# Altium integrated library Q-Resistors.IntLib: 917 symbols (part 2 of 8)
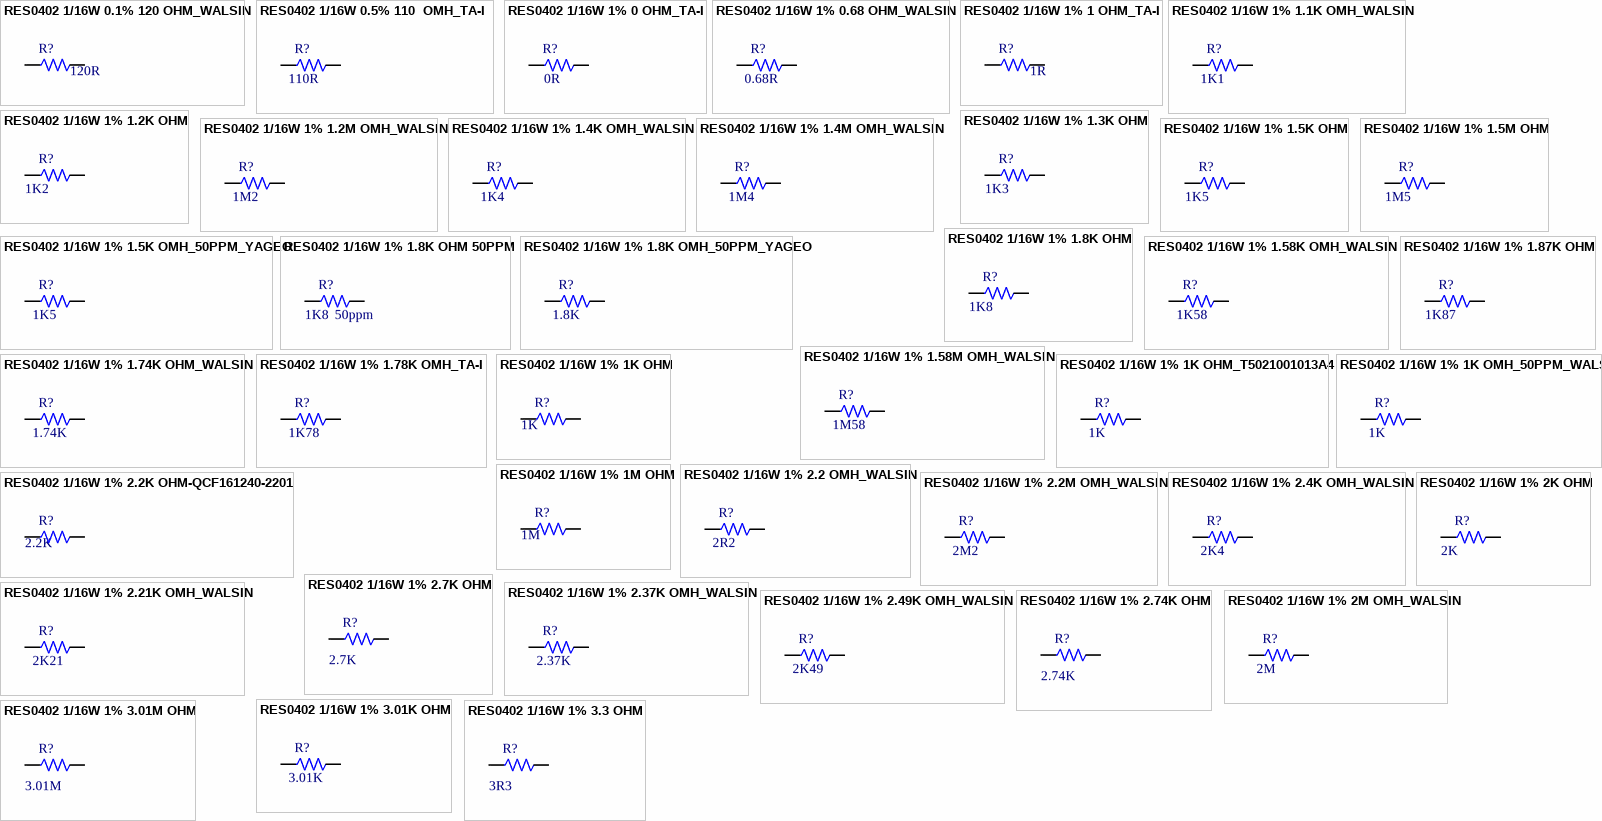
[diagram p23: symbols RES0402 1/16W 0.1% 120 OHM_WALSIN to RES0402 1/16W 1% 3.3 OHM]

## RES0402 1/16W 1% 1.2M OMH_WALSIN
designator R?, comment value 1M2  (hidden comment: T502120401399)
CHIP 1.2M OHM  100PPM +-1% 0402 WALS L; TOL: 1%; MFG: WALSIN (華新); Power: 1/16W; CREATE_NAME: Nathan; DIP&SMD: SMD; SAP: T502120401399; Package: 0402; MFG Part: *; Vendor Code: *; Vendor Name: *; Type: Resistor; CREATE_TIME: 25-May-2016; Customer Specific: N/A
footprint 0402-RW
pins: 1, 2

## RES0402 1/16W 1% 1.3K OHM
designator R?, comment value 1K3  (hidden comment: QCF161240-1301)
RES 1.3K OHM 1/16W 1% 0402; SAP: T502130101399; CREATE_NAME: Nathan; DIP&SMD: SMD; Vendor Code: *; Power: 1/16W; Vendor Name: *; MFG Part: *; MFG: *; TOL: 1%; Type: Resistor; CREATE_TIME: 26-Jan-2015; PACKAGE: 0402; Customer Specific: N/A
footprint 0402-RW
pins: 1, 2

## RES0402 1/16W 1% 1.4K OMH_WALSIN
designator R?, comment value 1K4  (hidden comment: T502140101399)
CHIP 1.4K OHM 100PPM +-1% 0402 WALS L; MFG Part: WR04X1401FTL; TOL: 1%; MFG: WALSIN; Power: 1/16W; CREATE_NAME: Nathan; DIP&SMD: SMD; SAP: T502140101399; Package: 0402; Vendor Code: *; Vendor Name: *; Type: Resistor; CREATE_TIME: 17-Feb-2020; Customer Specific: N/A
footprint 0402-RW
pins: 1, 2

## RES0402 1/16W 1% 1.4M OMH_WALSIN
designator R?, comment value 1M4  (hidden comment: T502140401399)
CHIP 1.4M OHM 100PPM +-1% 0402 WALS L; MFG Part: WR04W1404FTL; TOL: 1%; MFG: WALSIN (華新); Power: 1/16W; CREATE_NAME: Nathan; DIP&SMD: SMD; SAP: T502140401399; Package: 0402; Vendor Code: *; Vendor Name: *; Type: Resistor; CREATE_TIME: 24-Nov-2017; Customer Specific: N/A
footprint 0402-RW
pins: 1, 2

## RES0402 1/16W 1% 1.5K OHM
designator R?, comment value 1K5  (hidden comment: QCF161240-1501)
CHIP RES 1.5K OHM 1/16W 1% 0402; SAP: T502150101399; MFG: WALSIN; DIP&SMD: SMD; Vendor Code: *; Power: 1/16W; Vendor Name: *; MFG Part: *; TOL: 1%; Type: Resistor; PACKAGE: 0402; Customer Specific: N/A
footprint 0402-RW
pins: 1, 2

## RES0402 1/16W 1% 1.5K OMH_50PPM_YAGEO
designator R?, comment value 1K5  (hidden comment: T501150101321)
CHIP 1.5K OHM  50PPM +-1% 0402 YAGE H; TOL: 1%; MFG: YAGEO (國巨); Power: 1/16W; CREATE_NAME: Nathan; DIP&SMD: SMD; SAP: T501150101321; Package: 0402; MFG Part: *; Vendor Code: *; Vendor Name: *; Type: Resistor; CREATE_TIME: 23-May-2016; Customer Specific: N/A
footprint 0402-RW
pins: 1, 2

## RES0402 1/16W 1% 1.5M OHM
designator R?, comment value 1M5  (hidden comment: QCF161241-1504)
CHIP RES 1.5M OHM 1/16W 1% 0402; SAP: T502150401399; MFG: WALSIN; DIP&SMD: SMD; Vendor Code: *; Power: 1/16W; Vendor Name: *; MFG Part: *; TOL: 1%; Type: Resistor; PACKAGE: 0402; Customer Specific: N/A
footprint 0402-RW
pins: 1, 2

## RES0402 1/16W 1% 1.8K OHM
designator R?, comment value 1K8  (hidden comment: QCF161240-1801)
CHIP RES 1.8K 1/16W  1% 0402; SAP: T502180101399; CREATE_NAME: GordonL@Deftronics; DIP&SMD: SMD; Vendor Code: *; Power: 1/16W; Vendor Name: *; MFG Part: *; MFG: *; TOL: 1%; Type: Resistor; CREATE_TIME: 11-Mar-2014; PACKAGE: 0402; Customer Specific: N/A
footprint 0402-RW
pins: 1, 2

## RES0402 1/16W 1% 1.8K OHM 50PPM
designator R?, comment value 1K8  CREATE_NAME: 50ppm  (hidden comment: QCF161241-1801)
CHIP RES 1.8K OHM 1/16W 1% 0402 50ppm; SAP: T501180101329; MFG: WALSIN; DIP&SMD: SMD; Vendor Code: *; Power: 1/16W; Vendor Name: *; MFG Part: *; TOL: 1%; Type: Resistor; PACKAGE: 0402; Customer Specific: N/A
footprint 0402-RW
pins: 1, 2

## RES0402 1/16W 1% 1.8K OMH_50PPM_YAGEO
designator R?, comment value 1.8K  (hidden comment: T501180101321)
CHIP 1.8K OHM  50PPM +-1% 0402 YAGE H; TOL: 1%; MFG: YAGEO (國巨); Power: 1/16W; CREATE_NAME: Nathan; DIP&SMD: SMD; SAP: T501180101321; Package: 0402; MFG Part: *; Vendor Code: *; Vendor Name: *; Type: Resistor; CREATE_TIME: 23-May-2016; Customer Specific: N/A
footprint 0402-RW
pins: 1, 2

## RES0402 1/16W 1% 1.58K OMH_WALSIN
designator R?, comment value 1K58  (hidden comment: T502158101399)
CHIP 1.58K OHM 100PPM +-1% 0402 WALS L; TOL: 1%; MFG: WALSIN (華新); Power: 1/16W; CREATE_NAME: Nathan; DIP&SMD: SMD; SAP: T502158101399; Package: 0402; MFG Part: *; Vendor Code: *; Vendor Name: *; Type: Resistor; CREATE_TIME: 25-May-2016; Customer Specific: N/A
footprint 0402-RW
pins: 1, 2

## RES0402 1/16W 1% 1.58M OMH_WALSIN
designator R?, comment value 1M58  (hidden comment: T502158401399)
CHIP 1.58M OHM 100PPM +-1% 0402 WALS L; MFG Part: WR04W1584FTL; TOL: 1%; MFG: WALSIN (華新); Power: 1/16W; CREATE_NAME: Nathan; DIP&SMD: SMD; SAP: T502158401399; Package: 0402; Vendor Code: *; Vendor Name: *; Type: Resistor; CREATE_TIME: 24-Nov-2017; Customer Specific: N/A
footprint 0402-RW
pins: 1, 2

## RES0402 1/16W 1% 1.74K OHM_WALSIN
designator R?  value 1.74K  (hidden comment: *)
CHIP 1.74K OHM 100PPM +-1% 0402 WALS L; MFG Part: WR04X1741FTL; TOL: 1%; MFG: WALSIN; Power: 1/16W; CREATE_NAME: Nathan; DIP&SMD: SMD; SAP: *; Package: 0402; Vendor Code: *; Vendor Name: *; Type: Resistor; CREATE_TIME: 09-Oct-2020; Customer Specific: N/A
footprint 0402-RW
pins: 1, 2

## RES0402 1/16W 1% 1.78K OMH_TA-I
designator R?, comment value 1K78  (hidden comment: T502178101394)
CHIP 1.78K OHM 100PPM +-1% 0402 TA-I L; TOL: 1%; MFG: TA-I (大毅); Power: 1/16W; CREATE_NAME: Nathan; DIP&SMD: SMD; SAP: T502178101394; Package: 0402; MFG Part: *; Vendor Code: *; Vendor Name: *; Type: Resistor; CREATE_TIME: 25-May-2016; Customer Specific: N/A
footprint 0402-RW
pins: 1, 2

## RES0402 1/16W 1% 1.87K OHM
designator R?, comment value 1K87  (hidden comment: QCF161240-1871)
CHIP RES. 1.87K OHM 1/16W 1% 0402; SAP: T502187101399; CREATE_NAME: GordonL@Deftronics; DIP&SMD: SMD; Vendor Code: *; Power: 1/16W; Vendor Name: *; MFG Part: *; MFG: *; TOL: 1%; Type: Resistor; CREATE_TIME: 05-Jan-2013; PACKAGE: 0402; Customer Specific: N/A
footprint 0402-RW
pins: 1, 2

## RES0402 1/16W 1% 1K OHM
designator R?, comment value 1K  (hidden comment: QCF161240-1001)
CHIP RES 1K OHM 1/16W 1% 0402; SAP: T502100101399; MFG: WALSIN; DIP&SMD: SMD; Vendor Code: *; Power: 1/16W; Vendor Name: *; MFG Part: *; TOL: 1%; Type: Resistor; PACKAGE: 0402; Customer Specific: N/A
footprint 0402-RW
pins: 1, 2

## RES0402 1/16W 1% 1K OHM_T5021001013A4
designator R?, comment value 1K  (hidden comment: T5021001013A4)
CHIP 1K OHM 200PPM +-1% 0402 TA-I L; MFG Part: RM04FTN1001; TOL: 1%; Power: 1/16W; CREATE_NAME: Tom; DIP&SMD: SMD; SAP: T5021001013A4; Package: 0402; MFG: TA-I; Vendor Code: *; Vendor Name: *; Type: Resistor; CREATE_TIME: 12-Apr-2019; Customer Specific: N/A
footprint 0402-RW
pins: 1, 2

## RES0402 1/16W 1% 1K OMH_50PPM_WALSIN
designator R?, comment value 1K  (hidden comment: T501100101329)
CHIP 1K OHM    50PPM +-1% 0402 WALS L; TOL: 1%; MFG: WALSIN (華新); Power: 1/16W; CREATE_NAME: Nathan; DIP&SMD: SMD; SAP: T501100101329; Package: 0402; MFG Part: *; Vendor Code: *; Vendor Name: *; Type: Resistor; CREATE_TIME: 23-May-2016; Customer Specific: N/A
footprint 0402-RW
pins: 1, 2

## RES0402 1/16W 1% 1M OHM
designator R?, comment value 1M  (hidden comment: QCF161240-1004)
CHIP RES 1M OHM 1/16W 1% 0402; SAP: T502100401399; MFG: WALSIN; DIP&SMD: SMD; Vendor Code: *; Power: 1/16W; Vendor Name: *; MFG Part: *; TOL: 1%; Type: Resistor; PACKAGE: 0402; Customer Specific: N/A
footprint 0402-RW
pins: 1, 2

## RES0402 1/16W 1% 2.2 OMH_WALSIN
designator R?, comment value 2R2  (hidden comment: T502220B01399)
CHIP 2.2 OHM 100PPM +-1% 0402 WALS L; TOL: 1%; MFG: WALSIN (華新); Power: 1/16W; CREATE_NAME: Nathan; DIP&SMD: SMD; SAP: T502220B01399; Package: 0402; MFG Part: *; Vendor Code: *; Vendor Name: *; Type: Resistor; CREATE_TIME: 25-May-2016; Customer Specific: N/A
footprint 0402-RW
pins: 1, 2

## RES0402 1/16W 1% 2.2K OHM-QCF161240-2201
designator R?, comment value 2.2K  (hidden comment: QCF161240-2201)
CHIP RES 2.2K OHM 1/16W 1% 0402; SAP: T502220101399; CREATE_NAME: Evan@Deftronics; DIP&SMD: SMD; Vendor Code: *; Power: 1/16W; Vendor Name: *; MFG Part: *; MFG: *; TOL: 1%; Type: Resistor; CREATE_TIME: 23-Apr-2014; PACKAGE: 0402; Customer Specific: N/A
footprint 0402-RW
pins: 1, 2

## RES0402 1/16W 1% 2.2M OMH_WALSIN
designator R?, comment value 2M2  (hidden comment: T502220401399)
CHIP 2.2M OHM  100PPM +-1% 0402 WALS L; TOL: 1%; MFG: WALSIN (華新); Power: 1/16W; CREATE_NAME: Nathan; DIP&SMD: SMD; SAP: T502220401399; Package: 0402; MFG Part: *; Vendor Code: *; Vendor Name: *; Type: Resistor; CREATE_TIME: 25-May-2016; Customer Specific: N/A
footprint 0402-RW
pins: 1, 2

## RES0402 1/16W 1% 2.4K OMH_WALSIN
designator R?, comment value 2K4  (hidden comment: T502240101399)
CHIP 2.4K OHM 100PPM +-1% 0402 WALS L; TOL: 1%; MFG: WALSIN (華新); Power: 1/16W; CREATE_NAME: Nathan; DIP&SMD: SMD; SAP: T502240101399; Package: 0402; MFG Part: *; Vendor Code: *; Vendor Name: *; Type: Resistor; CREATE_TIME: 25-May-2016; Customer Specific: N/A
footprint 0402-RW
pins: 1, 2

## RES0402 1/16W 1% 2.7K OHM
designator R?, comment value 2.7K  (hidden comment: QCF161240-2701)
CHIP RES 2.7K OHM 1/16W 1% 0402; SAP: T502270101399; MFG: WALSIN; DIP&SMD: SMD; Vendor Code: *; Power: 1/16W; Vendor Name: *; MFG Part: *; TOL: 1%; Type: Resistor; PACKAGE: 0402; Customer Specific: N/A
footprint 0402-RW
pins: 1, 2

## RES0402 1/16W 1% 2.21K OMH_WALSIN
designator R?, comment value 2K21  (hidden comment: T502221101399)
CHIP 2.21K OHM 100PPM +-1% 0402 WALS L; TOL: 1%; MFG: WALSIN (華新); Power: 1/16W; CREATE_NAME: Nathan; DIP&SMD: SMD; SAP: T502221101399; Package: 0402; MFG Part: *; Vendor Code: *; Vendor Name: *; Type: Resistor; CREATE_TIME: 25-May-2016; Customer Specific: N/A
footprint 0402-RW
pins: 1, 2

## RES0402 1/16W 1% 2.37K OMH_WALSIN
designator R?, comment value 2.37K  (hidden comment: T502237101399)
CHIP 2.37K OHM 100PPM +-1% 0402 WALS L; TOL: 1%; MFG: WALSIN; Power: 1/16W; CREATE_NAME: Tom; DIP&SMD: SMD; SAP: T502237101399; Package: 0402; MFG Part: *; Vendor Code: *; Vendor Name: *; Type: Resistor; CREATE_TIME: 02-Aug-2019; Customer Specific: N/A
footprint 0402-RW
pins: 1, 2

## RES0402 1/16W 1% 2.49K OMH_WALSIN
designator R?, comment value 2K49  (hidden comment: T502249101399)
CHIP 2.49K OHM 100PPM +-1% 0402 WALS L; TOL: 1%; MFG: WALSIN (華新); Power: 1/16W; CREATE_NAME: Nathan; DIP&SMD: SMD; SAP: T502249101399; Package: 0402; MFG Part: *; Vendor Code: *; Vendor Name: *; Type: Resistor; CREATE_TIME: 25-May-2016; Customer Specific: N/A
footprint 0402-RW
pins: 1, 2

## RES0402 1/16W 1% 2.74K OHM
designator R?, comment value 2.74K  (hidden comment: QCF161240-2741)
CHIP RES  2.74K OHM 1/16W 1% 0402; SAP: T502274101399; CREATE_NAME: GordonL@Deftronics; DIP&SMD: SMD; Vendor Code: *; Power: 1/16W; Vendor Name: *; MFG Part: *; MFG: *; TOL: 1%; Type: Resistor; CREATE_TIME: 05-Jan-2013; PACKAGE: 0402; Customer Specific: N/A
footprint 0402-RW
pins: 1, 2

## RES0402 1/16W 1% 2K OHM
designator R?, comment value 2K  (hidden comment: QCF161242-2001)
CHIP RES  2K OHM 1/16W 1% 0402; SAP: T502200101399; CREATE_NAME: GordonL@Deftronics; DIP&SMD: SMD; Vendor Code: *; Power: 1/16W; Vendor Name: *; MFG Part: *; MFG: *; TOL: 1%; Type: Resistor; CREATE_TIME: 05-Jan-2013; PACKAGE: 0402; Customer Specific: N/A
footprint 0402-RW
pins: 1, 2

## RES0402 1/16W 1% 2M OMH_WALSIN
designator R?, comment value 2M  (hidden comment: T502200401399)
CHIP 2M OHM    100PPM +-1% 0402 WALS L; TOL: 1%; MFG: WALSIN (華新); Power: 1/16W; CREATE_NAME: Nathan; DIP&SMD: SMD; SAP: T502200401399; Package: 0402; MFG Part: *; Vendor Code: *; Vendor Name: *; Type: Resistor; CREATE_TIME: 25-May-2016; Customer Specific: N/A
footprint 0402-RW
pins: 1, 2

## RES0402 1/16W 1% 3.01K OHM
designator R?, comment value 3.01K  (hidden comment: T502301101391)
CHIP 3.01K OHM 100PPM +-1% 0402 YAGE L; MFG Part: RC0402FR-073K01L; Power: 1/16W; MFG: YAGEO; TOL: 1%; CREATE_NAME: Nathan; DIP&SMD: SMD; Vendor Code: *; SAP: T502301101391; Vendor Name: *; Type: Resistor; CREATE_TIME: 12-Feb-2020; PACKAGE: 0402; Customer Specific: N/A
footprint 0402-RW
pins: 1, 2

## RES0402 1/16W 1% 3.01M OHM
designator R?, comment value 3.01M  (hidden comment: QCF161240-3014)
CHIP RES 3.01M OHM  1% 1/16W 0402; SAP: T502301401399; CREATE_NAME: GordonL@Deftronics; DIP&SMD: SMD; Vendor Code: *; Power: 1/16W; Vendor Name: *; MFG Part: *; MFG: *; TOL: 1%; Type: Resistor; CREATE_TIME: 21-Feb-2014; PACKAGE: 0402; Customer Specific: N/A
footprint 0402-RW
pins: 1, 2

## RES0402 1/16W 1% 3.3 OHM
designator R?, comment value 3R3  (hidden comment: QCF161240-3308)
CHIP RES  3.3 OHM 1/16W 1% 0402; SAP: T502330B01399; CREATE_NAME: GordonL@Deftronics; DIP&SMD: SMD; Vendor Code: *; Power: 1/16W; Vendor Name: *; MFG Part: *; MFG: *; TOL: 1%; Type: Resistor; CREATE_TIME: 05-Jan-2013; PACKAGE: 0402; Customer Specific: N/A
footprint 0402-RW
pins: 1, 2

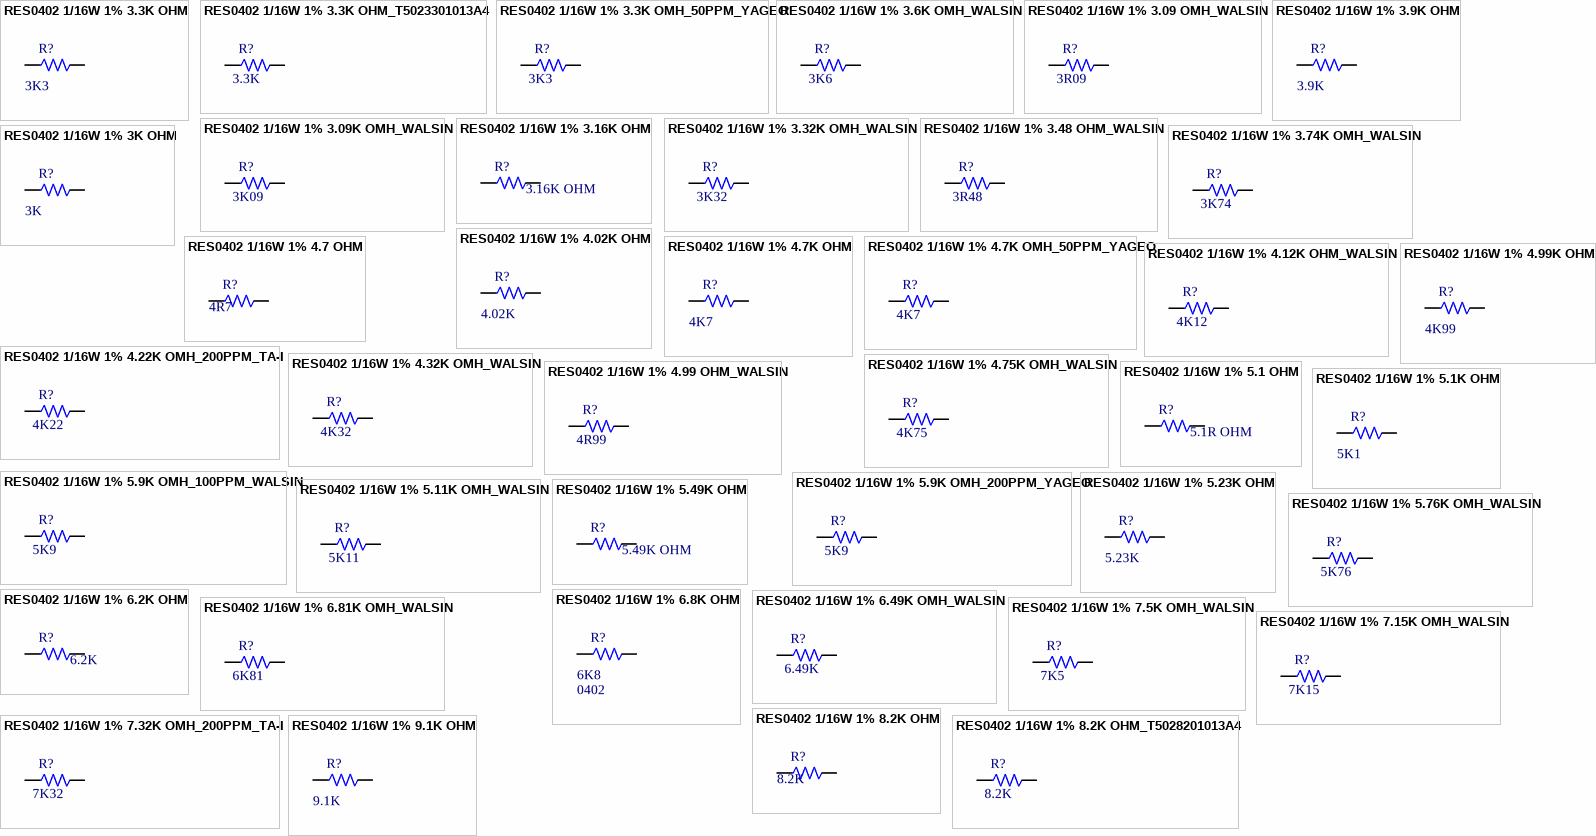
[diagram p4: symbols RES0402 1/16W 1% 3.3K OHM to RES0402 1/16W 1% 9.1K OHM]

## RES0402 1/16W 1% 3.3K OHM
designator R?, comment value 3K3  (hidden comment: QCF161241-3301)
CHIP RES 3.3K OHM 1/16W 1% 0402; SAP: T502330101399; MFG: WALSIN; DIP&SMD: SMD; Vendor Code: *; Power: 1/16W; Vendor Name: *; MFG Part: *; TOL: 1%; Type: Resistor; PACKAGE: 0402; Customer Specific: N/A
footprint 0402-RW
pins: 1, 2

## RES0402 1/16W 1% 3.3K OHM_T5023301013A4
designator R?, comment value 3.3K  (hidden comment: T5023301013A4)
CHIP 3.3K OHM 200PPM +-1% 0402 TA-I L; MFG Part: RM04FTN3301; TOL: 1%; Power: 1/16W; CREATE_NAME: Tom; DIP&SMD: SMD; SAP: T5023301013A4; Package: 0402; MFG: TA-I; Vendor Code: *; Vendor Name: *; Type: Resistor; CREATE_TIME: 12-Apr-2019; Customer Specific: N/A
footprint 0402-RW
pins: 1, 2

## RES0402 1/16W 1% 3.3K OMH_50PPM_YAGEO
designator R?, comment value 3K3  (hidden comment: T501330101321)
CHIP 3.3K OHM  50PPM +-1% 0402 YAGE H; TOL: 1%; MFG: YAGEO (國巨); Power: 1/16W; CREATE_NAME: Nathan; DIP&SMD: SMD; SAP: T501330101321; Package: 0402; MFG Part: *; Vendor Code: *; Vendor Name: *; Type: Resistor; CREATE_TIME: 23-May-2016; Customer Specific: N/A
footprint 0402-RW
pins: 1, 2

## RES0402 1/16W 1% 3.6K OMH_WALSIN
designator R?, comment value 3K6  (hidden comment: T502360101399)
CHIP 3.6K OHM  100PPM +-1% 0402 WALS G; TOL: 1%; MFG: WALSIN (華新); Power: 1/16W; CREATE_NAME: Nathan; DIP&SMD: SMD; SAP: T502360101399; Package: 0402; MFG Part: *; Vendor Code: *; Vendor Name: *; Type: Resistor; CREATE_TIME: 25-May-2016; Customer Specific: N/A
footprint 0402-RW
pins: 1, 2

## RES0402 1/16W 1% 3.09 OMH_WALSIN
designator R?, comment value 3R09  (hidden comment: T502309B01399)
CHIP 3.09 OHM 100PPM +-1% 0402 WALS L; MFG Part: WR04W3R09FTL; TOL: 1%; MFG: WALSIN; Power: 1/16W; CREATE_NAME: Nathan; DIP&SMD: SMD; SAP: T502309B01399; Package: 0402; Vendor Code: *; Vendor Name: *; Type: Resistor; CREATE_TIME: 17-Feb-2020; Customer Specific: N/A
footprint 0402-RW
pins: 1, 2

## RES0402 1/16W 1% 3.9K OHM
designator R?, comment value 3.9K  (hidden comment: QCF161241-3901)
CHIP RES 3.9K OHM 1/16W 1% 0402; SAP: T502390101399; MFG: WALSIN; DIP&SMD: SMD; Vendor Code: *; Power: 1/16W; Vendor Name: *; MFG Part: *; TOL: 1%; Type: Resistor; PACKAGE: 0402; Customer Specific: N/A
footprint 0402-RW
pins: 1, 2

## RES0402 1/16W 1% 3.09K OMH_WALSIN
designator R?, comment value 3K09  (hidden comment: T502309101399)
CHIP 3.09K OHM 100PPM +-1% 0402 WALS L; TOL: 1%; MFG: WALSIN (華新); Power: 1/16W; CREATE_NAME: Nathan; DIP&SMD: SMD; SAP: T502309101399; Package: 0402; MFG Part: *; Vendor Code: *; Vendor Name: *; Type: Resistor; CREATE_TIME: 25-May-2016; Customer Specific: N/A
footprint 0402-RW
pins: 1, 2

## RES0402 1/16W 1% 3.16K OHM
designator R?, comment value 3.16K OHM  (hidden comment: QCF161240-3161)
CHIP RES 3.16K OHM 1% 1/16W 0402; SAP: T502316101399; CREATE_NAME: TOM@Deftronics; DIP&SMD: SMD; Package: 0402; TOL: 1%; MFG Part: *; MFG: *; Vendor Code: *; Vendor Name: *; Type: Resistor; Power: 1/16W; CREATE_TIME: 15-May-2014; Customer Specific: N/A
footprint 0402-RW
pins: 1, 2

## RES0402 1/16W 1% 3.32K OMH_WALSIN
designator R?, comment value 3K32  (hidden comment: T502332101399)
CHIP 3.32K OHM 100PPM +-1% 0402 WALS L; TOL: 1%; MFG: WALSIN (華新); Power: 1/16W; CREATE_NAME: Nathan; DIP&SMD: SMD; SAP: T502332101399; Package: 0402; MFG Part: *; Vendor Code: *; Vendor Name: *; Type: Resistor; CREATE_TIME: 25-May-2016; Customer Specific: N/A
footprint 0402-RW
pins: 1, 2

## RES0402 1/16W 1% 3.48 OHM_WALSIN
designator R?, comment value 3R48  (hidden comment: T502348B01339)
CHIP 3.48 OHM 1% SER +-1% 0402 WALS L; MFG Part: WR04W3R48FTL; MFG: WALSIN (華新); Power: 1/16W; CREATE_NAME: Nathan; DIP&SMD: SMD; SAP: T502348B01339; Package: 0402; TOL: 1%; Vendor Code: *; Vendor Name: *; Type: Resistor; CREATE_TIME: 07-Oct-2019; Customer Specific: N/A
footprint 0402-RW
pins: 1, 2

## RES0402 1/16W 1% 3.74K OMH_WALSIN
designator R?, comment value 3K74  (hidden comment: T502374101399)
CHIP 3.74K OHM 100PPM +-1% 0402 WALS L; MFG Part: WR04X3741FTL; TOL: 1%; MFG: WALSIN; Power: 1/16W; CREATE_NAME: Nathan; DIP&SMD: SMD; SAP: T502374101399; Package: 0402; Vendor Code: *; Vendor Name: *; Type: Resistor; CREATE_TIME: 16-Oct-2017; Customer Specific: N/A
footprint 0402-RW
pins: 1, 2

## RES0402 1/16W 1% 3K OHM
designator R?, comment value 3K  (hidden comment: QCF161240-3001)
CHIP RES 3K OHM 1% 1/16W 0402; SAP: T502300101399; CREATE_NAME: Nathan; DIP&SMD: SMD; Vendor Code: *; Power: 1/16W; Vendor Name: *; MFG Part: *; MFG: *; TOL: 1%; Type: Resistor; CREATE_TIME: 22-Dec-2014; PACKAGE: 0402; Customer Specific: N/A
footprint 0402-RW
pins: 1, 2

## RES0402 1/16W 1% 4.02K OHM
designator R?, comment value 4.02K  (hidden comment: QCF161240-4021)
CHIP RES 4.02K OHM 1% 1/16W 0402 ??; SAP: T502402101399; CREATE_NAME: GordonL@Deftronics; DIP&SMD: SMD; Vendor Code: *; Power: 1/16W; Vendor Name: *; MFG Part: *; MFG: *; TOL: 1%; Type: Resistor; CREATE_TIME: 11-Mar-2014; PACKAGE: 0402; Customer Specific: N/A
footprint 0402-RW
pins: 1, 2

## RES0402 1/16W 1% 4.7 OHM
designator R?, comment value 4R7  (hidden comment: QCF161240-4708)
CHIP RES 4.7 OHM 1% 1/16W  0402; SAP: T502470B01399; MFG: WALSIN; CREATE_NAME: Nathan; DIP&SMD: SMD; Vendor Code: *; Power: 1/16W; Vendor Name: *; MFG Part: *; TOL: 1%; Type: Resistor; CREATE_TIME: 15-Apr-2015; PACKAGE: 0402; Customer Specific: N/A
footprint 0402-RW
pins: 1, 2

## RES0402 1/16W 1% 4.7K OHM
designator R?, comment value 4K7  (hidden comment: QCF161241-4701)
CHIP 4.7K OHM 100PPM +-1% 0402 WALS L; SAP: T502470101399; Power: 1/16W; MFG: WALSIN; TOL: 1%; DIP&SMD: SMD; Vendor Code: *; Vendor Name: *; MFG Part: *; Type: Resistor; PACKAGE: 0402; Customer Specific: N/A
footprint 0402-RW
pins: 1, 2

## RES0402 1/16W 1% 4.7K OMH_50PPM_YAGEO
designator R?, comment value 4K7  (hidden comment: T501470101321)
CHIP 4.7K OHM  50PPM +-1% 0402 YAGE H; TOL: 1%; MFG: YAGEO (國巨); Power: 1/16W; CREATE_NAME: Nathan; DIP&SMD: SMD; SAP: T501470101321; Package: 0402; MFG Part: *; Vendor Code: *; Vendor Name: *; Type: Resistor; CREATE_TIME: 23-May-2016; Customer Specific: N/A
footprint 0402-RW
pins: 1, 2

## RES0402 1/16W 1% 4.12K OHM_WALSIN
designator R?, comment value 4K12  (hidden comment: T502412101399)
CHIP 4.12K OHM 100PPM +-1% 0402 WALS L; MFG Part: WR04X4121FTL; TOL: 1%; MFG: WALSIN (華新); Power: 1/16W; CREATE_NAME: Nathan; DIP&SMD: SMD; SAP: T502412101399; Package: 0402; Vendor Code: *; Vendor Name: *; Type: Resistor; CREATE_TIME: 25-Oct-2019; Customer Specific: N/A
footprint 0402-RW
pins: 1, 2

## RES0402 1/16W 1% 4.22K OMH_200PPM_TA-I
designator R?, comment value 4K22  (hidden comment: T5024221013A4)
CHIP 4.22K OHM 200PPM +-1% 0402 TA-I L; TOL: 1%; MFG: TA-I (大毅); Power: 1/16W; CREATE_NAME: Nathan; DIP&SMD: SMD; SAP: T5024221013A4; Package: 0402; MFG Part: *; Vendor Code: *; Vendor Name: *; Type: Resistor; CREATE_TIME: 03-July-2016; Customer Specific: N/A
footprint 0402-RW
pins: 1, 2

## RES0402 1/16W 1% 4.32K OMH_WALSIN
designator R?, comment value 4K32  (hidden comment: T502432101399)
CHIP 4.32K OHM 100PPM +-1% 0402 WALS L; TOL: 1%; MFG: WALSIN (華新); Power: 1/16W; CREATE_NAME: Nathan; DIP&SMD: SMD; SAP: T502432101399; Package: 0402; MFG Part: *; Vendor Code: *; Vendor Name: *; Type: Resistor; CREATE_TIME: 25-May-2016; Customer Specific: N/A
footprint 0402-RW
pins: 1, 2

## RES0402 1/16W 1% 4.75K OMH_WALSIN
designator R?, comment value 4K75  (hidden comment: T502475101399)
CHIP 4.75K OHM 100PPM +-1% 0402 WALS L; TOL: 1%; MFG: WALSIN (華新); Power: 1/16W; CREATE_NAME: Nathan; DIP&SMD: SMD; SAP: T502475101399; Package: 0402; MFG Part: *; Vendor Code: *; Vendor Name: *; Type: Resistor; CREATE_TIME: 25-May-2016; Customer Specific: N/A
footprint 0402-RW
pins: 1, 2

## RES0402 1/16W 1% 4.99 OHM_WALSIN
designator R?, comment value 4R99  (hidden comment: T502499B01339)
CHIP 4.99 OHM 1% SER +-1% 0402 WALS L; MFG Part: WR04W4R99FTL; Power: 1/16W; MFG: WALSIN; CREATE_NAME: Nathan; DIP&SMD: SMD; Vendor Code: *; SAP: T502499B01339; Vendor Name: *; TOL: 1%; Type: Resistor; CREATE_TIME: 26-Sep-2019; PACKAGE: 0402; Customer Specific: N/A
footprint 0402-RW
pins: 1, 2

## RES0402 1/16W 1% 4.99K OHM
designator R?, comment value 4K99  (hidden comment: QCF161241-4991)
CHIP RES  4.99K OHM 1/16W 1% 0402; SAP: T502499101399; CREATE_NAME: GordonL@Deftronics; DIP&SMD: SMD; Vendor Code: *; Power: 1/16W; Vendor Name: *; MFG Part: *; MFG: *; TOL: 1%; Type: Resistor; CREATE_TIME: 05-Jan-2013; PACKAGE: 0402; Customer Specific: N/A
footprint 0402-RW
pins: 1, 2

## RES0402 1/16W 1% 5.1 OHM
designator R?, comment value 5.1R OHM  (hidden comment: QCF161240-5108)
CHIP RES 5.1 OHM 1% 1/16W 0402; SAP: T502510B01399; CREATE_NAME: Evan@Deftronics; DIP&SMD: SMD; Package: 0402; TOL: 1%; MFG Part: *; MFG: *; Vendor Code: *; Vendor Name: *; Type: Resistor; Power: 1/16W; CREATE_TIME: 02-Jun-2014; Customer Specific: N/A
footprint 0402-RW
pins: 1, 2

## RES0402 1/16W 1% 5.1K OHM
designator R?, comment value 5K1  (hidden comment: QCF161241-5101)
CHIP RES 5.1K OHM 1% 1/16W 0402; SAP: T502510101399; CREATE_NAME: Evan@Deftronics; DIP&SMD: SMD; Vendor Code: *; Power: 1/16W; Vendor Name: *; MFG Part: *; MFG: *; TOL: 1%; Type: Resistor; CREATE_TIME: 23-Apr-2014; PACKAGE: 0402; Customer Specific: N/A
footprint 0402-RW
pins: 1, 2

## RES0402 1/16W 1% 5.9K OMH_100PPM_WALSIN
designator R?, comment value 5K9  (hidden comment: T502590101399)
CHIP 5.9K OHM 100PPM +-1% 0402 WALS L; TOL: 1%; MFG: WALSIN; Power: 1/16W; CREATE_NAME: Nathan; DIP&SMD: SMD; SAP: T502590101399; Package: 0402; MFG Part: *; Vendor Code: *; Vendor Name: *; Type: Resistor; CREATE_TIME: 28-Sep-2017; Customer Specific: N/A
footprint 0402-RW
pins: 1, 2

## RES0402 1/16W 1% 5.9K OMH_200PPM_YAGEO
designator R?, comment value 5K9  (hidden comment: T5025901013A1)
CHIP 5.9K OHM  200PPM +-1% 0402 YAGE L; TOL: 1%; MFG: YAGEO (國巨); Power: 1/16W; CREATE_NAME: Nathan; DIP&SMD: SMD; SAP: T5025901013A1; Package: 0402; MFG Part: *; Vendor Code: *; Vendor Name: *; Type: Resistor; CREATE_TIME: 23-May-2016; Customer Specific: N/A
footprint 0402-RW
pins: 1, 2

## RES0402 1/16W 1% 5.11K OMH_WALSIN
designator R?, comment value 5K11  (hidden comment: T502511101399)
CHIP 5.11K OHM 100PPM +-1% 0402 WALS L; TOL: 1%; MFG: WALSIN (華新); Power: 1/16W; CREATE_NAME: Nathan; DIP&SMD: SMD; SAP: T502511101399; Package: 0402; MFG Part: *; Vendor Code: *; Vendor Name: *; Type: Resistor; CREATE_TIME: 25-May-2016; Customer Specific: N/A
footprint 0402-RW
pins: 1, 2

## RES0402 1/16W 1% 5.23K OHM
designator R?, comment value 5.23K  (hidden comment: QCF161240-5231)
CHIP RES 5.23K OHM 1% 1/16W 0402 ??; SAP: T502523101399; CREATE_NAME: GordonL@Deftronics; DIP&SMD: SMD; Vendor Code: *; Power: 1/16W; Vendor Name: *; MFG Part: *; MFG: *; TOL: 1%; Type: Resistor; CREATE_TIME: 11-Mar-2014; PACKAGE: 0402; Customer Specific: N/A
footprint 0402-RW
pins: 1, 2

## RES0402 1/16W 1% 5.49K OHM
designator R?, comment value 5.49K OHM  (hidden comment: QCF161240-5491)
RES, 5.49K OHM, 1/16W, 1%, 0402, RoHS; SAP: T502549101399; CREATE_NAME: TOM@Deftronics; DIP&SMD: SMD; Package: 0402; TOL: 1%; MFG Part: *; MFG: *; Vendor Code: *; Vendor Name: *; Type: Resistor; Power: 1/16W; CREATE_TIME: 13-May-2014; Customer Specific: N/A
footprint 0402-RW
pins: 1, 2

## RES0402 1/16W 1% 5.76K OMH_WALSIN
designator R?, comment value 5K76  (hidden comment: T502576101399)
CHIP 5.76K OHM 100PPM +-1% 0402 WALS L; TOL: 1%; MFG: WALSIN (華新); Power: 1/16W; CREATE_NAME: Nathan; DIP&SMD: SMD; SAP: T502576101399; Package: 0402; MFG Part: *; Vendor Code: *; Vendor Name: *; Type: Resistor; CREATE_TIME: 13-July-2017; Customer Specific: N/A
footprint 0402-RW
pins: 1, 2

## RES0402 1/16W 1% 6.2K OHM
designator R?, comment value 6.2K  (hidden comment: T502620101399)
CHIP 6.2K OHM 100PPM +-1% 0402 WALS L; MFG: WALSIN; Power: 1/16W; CREATE_NAME: Tom; DIP&SMD: SMD; SAP: T502620101399; Package: 0402; TOL: +-1%; MFG Part: *; Vendor Code: *; Vendor Name: *; Type: Resistor; CREATE_TIME: 26-Nov-2015; Customer Specific: N/A
footprint 0402-RW
pins: 1, 2

## RES0402 1/16W 1% 6.8K OHM
designator R?, comment value 6K8  PACKAGE: 0402  (hidden comment: QCF161242-6801)
CHIP RES 6.8K OHM 1% 1/16W 0402; SAP: T502680101399; CREATE_NAME: GordonL@Deftronics; DIP&SMD: SMD; Vendor Code: *; Power: 1/16W; Vendor Name: *; MFG Part: *; MFG: *; TOL: 1%; Type: Resistor; CREATE_TIME: 20-Feb-2014; Customer Specific: N/A
footprint 0402-RW
pins: 1, 2

## RES0402 1/16W 1% 6.49K OMH_WALSIN
designator R?, comment value 6.49K  (hidden comment: T502649101399)
CHIP 6.49K OHM 100PPM +-1% 0402 WALS L; MFG Part: WR04X6491FTL; TOL: 1%; MFG: WALSIN; Power: 1/16W; CREATE_NAME: Tom; DIP&SMD: SMD; SAP: T502649101399; Package: 0402; Type: Resistor; CREATE_TIME: 29-Oct-2019; Customer Specific: N/A
footprint 0402-RW
pins: 1, 2

## RES0402 1/16W 1% 6.81K OMH_WALSIN
designator R?, comment value 6K81  (hidden comment: T502681101399)
CHIP 6.81K OHM 100PPM +-1% 0402 WALS L; TOL: 1%; MFG: WALSIN (華新); Power: 1/16W; CREATE_NAME: Nathan; DIP&SMD: SMD; SAP: T502681101399; Package: 0402; MFG Part: *; Vendor Code: *; Vendor Name: *; Type: Resistor; CREATE_TIME: 25-May-2016; Customer Specific: N/A
footprint 0402-RW
pins: 1, 2

## RES0402 1/16W 1% 7.5K OMH_WALSIN
designator R?, comment value 7K5  (hidden comment: T502750101399)
CHIP 7.5K OHM  100PPM +-1% 0402 WALS L; TOL: 1%; MFG: WALSIN (華新); Power: 1/16W; CREATE_NAME: Nathan; DIP&SMD: SMD; SAP: T502750101399; Package: 0402; MFG Part: *; Vendor Code: *; Vendor Name: *; Type: Resistor; CREATE_TIME: 25-May-2016; Customer Specific: N/A
footprint 0402-RW
pins: 1, 2

## RES0402 1/16W 1% 7.15K OMH_WALSIN
designator R?, comment value 7K15  (hidden comment: T502715101399)
CHIP 7.15K OHM 100PPM +-1% 0402 WALS L; TOL: 1%; MFG: WALSIN (華新); Power: 1/16W; CREATE_NAME: Nathan; DIP&SMD: SMD; SAP: T502715101399; Package: 0402; MFG Part: *; Vendor Code: *; Vendor Name: *; Type: Resistor; CREATE_TIME: 25-May-2016; Customer Specific: N/A
footprint 0402-RW
pins: 1, 2

## RES0402 1/16W 1% 7.32K OMH_200PPM_TA-I
designator R?, comment value 7K32  (hidden comment: T5027321013A4)
CHIP 7.32K OHM 200PPM +-1% 0402 TA-I L; TOL: 1%; MFG: TA-I (大毅); Power: 1/16W; CREATE_NAME: Nathan; DIP&SMD: SMD; SAP: T5027321013A4; Package: 0402; MFG Part: *; Vendor Code: *; Vendor Name: *; Type: Resistor; CREATE_TIME: 03-July-2016; Customer Specific: N/A
footprint 0402-RW
pins: 1, 2

## RES0402 1/16W 1% 8.2K OHM
designator R?, comment value 8.2K  (hidden comment: QCF161240-8201)
CHIP RES 8.2K OHM 1/16W 1% 0402; SAP: T502820101399; MFG: WALSIN; DIP&SMD: SMD; Vendor Code: *; Power: 1/16W; Vendor Name: *; MFG Part: *; TOL: 1%; Type: Resistor; PACKAGE: 0402; Customer Specific: N/A
footprint 0402-RW
pins: 1, 2

## RES0402 1/16W 1% 8.2K OHM_T5028201013A4
designator R?, comment value 8.2K  (hidden comment: T5028201013A4)
HIP 8.2K OHM 200PPM +-1% 0402 TA-I L; MFG Part: RM04FTN8201; TOL: 1%; Power: 1/16W; CREATE_NAME: Tom; DIP&SMD: SMD; SAP: T5028201013A4; Package: 0402; MFG: TA-I; Vendor Code: *; Vendor Name: *; Type: Resistor; CREATE_TIME: 15-Apr-2019; Customer Specific: N/A
footprint 0402-RW
pins: 1, 2

## RES0402 1/16W 1% 9.1K OHM
designator R?, comment value 9.1K  (hidden comment: QCF161240-9101)
CHIP RES 9.1K OHM 1% 1/16W 0402; SAP: T502910101399; CREATE_NAME: GordonL@Deftronics; DIP&SMD: SMD; Vendor Code: *; Power: 1/16W; Vendor Name: *; MFG Part: *; MFG: *; TOL: 1%; Type: Resistor; CREATE_TIME: 18-Feb-2014; PACKAGE: 0402; Customer Specific: N/A
footprint 0402-RW
pins: 1, 2

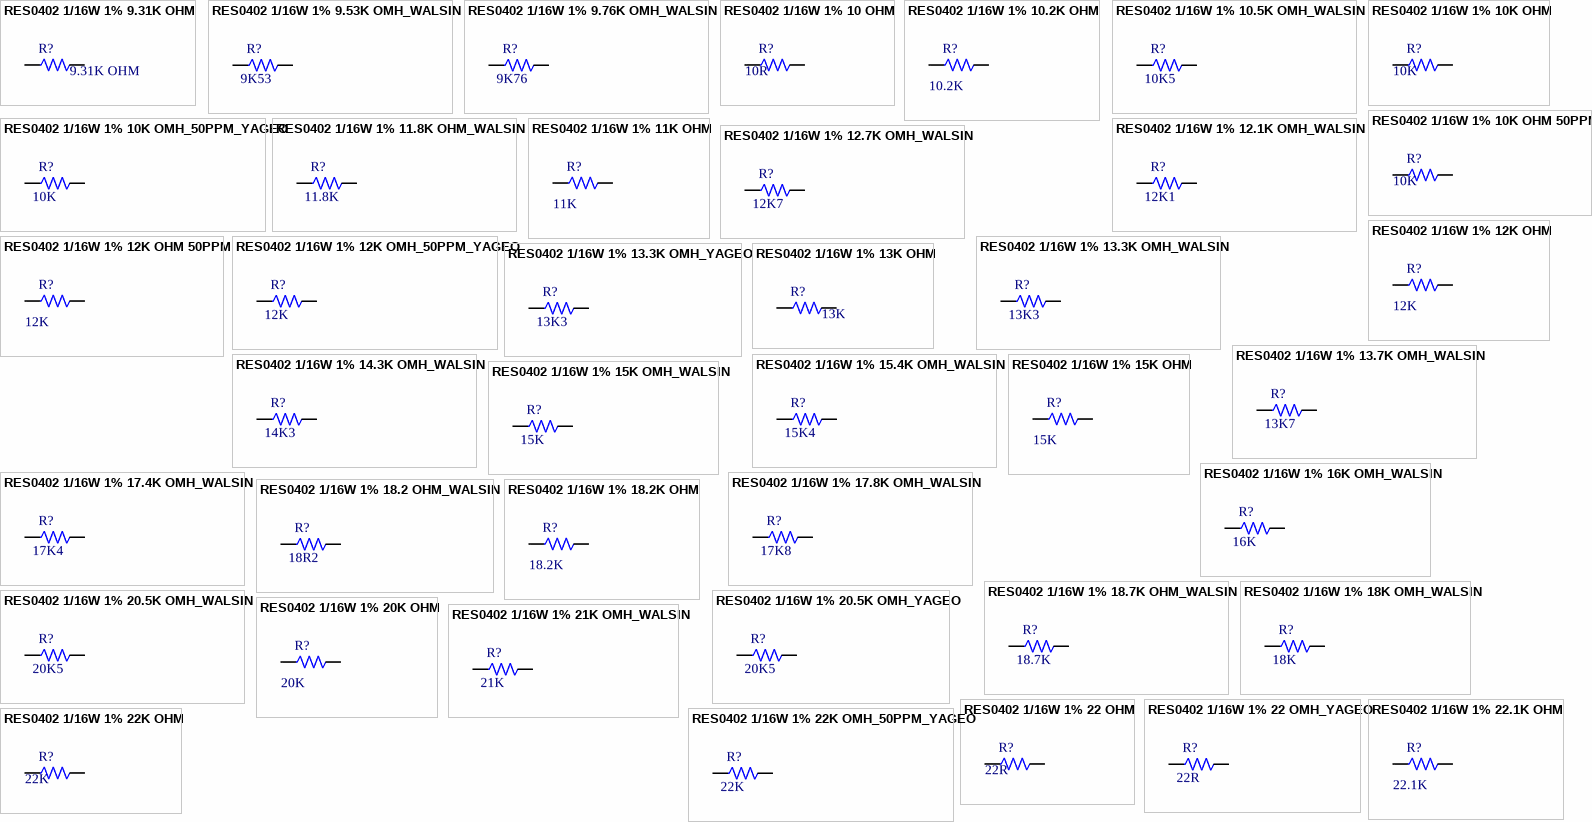
[diagram p5: symbols RES0402 1/16W 1% 9.31K OHM to RES0402 1/16W 1% 22K OMH_50PPM_YAGEO]

## RES0402 1/16W 1% 9.31K OHM
designator R?, comment value 9.31K OHM  (hidden comment: QCF161240-9311)
RES, 9.31K OHM, 1/16W, 1%, 0402, RoHS; SAP: T502931101399; CREATE_NAME: TOM@Deftronics; DIP&SMD: SMD; Package: 0402; TOL: 1%; MFG Part: *; MFG: *; Vendor Code: *; Vendor Name: *; Type: Resistor; Power: 1/16W; CREATE_TIME: 13-May-2014; Customer Specific: N/A
footprint 0402-RW
pins: 1, 2

## RES0402 1/16W 1% 9.53K OMH_WALSIN
designator R?, comment value 9K53  (hidden comment: T502953101399)
CHIP 9.53K OHM 100PPM +-1% 0402 WALS L; MFG Part: WR04X9531FTL; TOL: 1%; MFG: WALSIN; Power: 1/16W; CREATE_NAME: Nathan; DIP&SMD: SMD; SAP: T502953101399; Package: 0402; Vendor Code: *; Vendor Name: *; Type: Resistor; CREATE_TIME: 12-Feb-2020; Customer Specific: N/A
footprint 0402-RW
pins: 1, 2

## RES0402 1/16W 1% 9.76K OMH_WALSIN
designator R?, comment value 9K76  (hidden comment: T502976101399)
CHIP 9.76K OHM 100PPM +-1% 0402 WALS L; MFG Part: WR04X9761FTL; TOL: 1%; MFG: WALSIN (華新); Power: 1/16W; CREATE_NAME: Nathan; DIP&SMD: SMD; SAP: T502976101399; Package: 0402; Vendor Code: *; Vendor Name: *; Type: Resistor; CREATE_TIME: 23-Apr-2019; Customer Specific: N/A
footprint 0402-RW
pins: 1, 2

## RES0402 1/16W 1% 10 OHM
designator R?, comment value 10R  (hidden comment: QCF161241-1009)
CHIP RES 10 OHM 1/16W 1% 0402; MFG Part: WR04X10R0FTL; SAP: T502100A01399; MFG: WALSIN; DIP&SMD: SMD; Vendor Code: *; Power: 1/16W; Vendor Name: *; TOL: 1%; Type: Resistor; PACKAGE: 0402; Customer Specific: N/A
footprint 0402-RW
pins: 1, 2

## RES0402 1/16W 1% 10.2K OHM
designator R?, comment value 10.2K  (hidden comment: QCF161240-1022)
CHIP RES 10.2K OHM 1/16W 1% 0402; SAP: T502102201399; CREATE_NAME: Michael@Deftronics; DIP&SMD: SMD; Vendor Code: *; Power: 1/16W; Vendor Name: *; MFG Part: *; MFG: *; TOL: 1%; CREATE_TIME: 08-JAN-2013; Type: Resistor; PACKAGE: 0402; Customer Specific: N/A
footprint 0402-RW
pins: 1, 2

## RES0402 1/16W 1% 10.5K OMH_WALSIN
designator R?, comment value 10K5  (hidden comment: T502105201399)
CHIP 10.5K OHM 100PPM +-1% 0402 WALS L; TOL: 1%; MFG: WALSIN (華新); Power: 1/16W; CREATE_NAME: Nathan; DIP&SMD: SMD; SAP: T502105201399; Package: 0402; MFG Part: *; Vendor Code: *; Vendor Name: *; Type: Resistor; CREATE_TIME: 25-May-2016; Customer Specific: N/A
footprint 0402-RW
pins: 1, 2

## RES0402 1/16W 1% 10K OHM
designator R?, comment value 10K  (hidden comment: QCF161240-1002)
CHIP RES 10K OHM 1/16W 1% 0402; SAP: T502100201399; MFG: WALSIN; DIP&SMD: SMD; Vendor Code: *; Power: 1/16W; Vendor Name: *; MFG Part: *; TOL: 1%; Type: Resistor; PACKAGE: 0402; Customer Specific: N/A
footprint 0402-RW
pins: 1, 2

## RES0402 1/16W 1% 10K OHM 50PPM
designator R?, comment value 10K  (hidden comment: QCF161241-1002)
CHIP RES 10K OHM 1/16W 1% 0402 50ppm; SAP: T501100201329; MFG: WALSIN; DIP&SMD: SMD; Vendor Code: *; Power: 1/16W; Vendor Name: *; MFG Part: *; TOL: 1%; Type: Resistor; PACKAGE: 0402; Customer Specific: N/A
footprint 0402-RW
pins: 1, 2

## RES0402 1/16W 1% 10K OMH_50PPM_YAGEO
designator R?, comment value 10K  (hidden comment: T501100201321)
CHIP 10K OHM   50PPM +-1% 0402 YAGE H; TOL: 1%; MFG: YAGEO (國巨); Power: 1/16W; CREATE_NAME: Nathan; DIP&SMD: SMD; SAP: T501100201321; Package: 0402; MFG Part: *; Vendor Code: *; Vendor Name: *; Type: Resistor; CREATE_TIME: 23-May-2016; Customer Specific: N/A
footprint 0402-RW
pins: 1, 2

## RES0402 1/16W 1% 11.8K OHM_WALSIN
designator R?, comment value 11.8K  (hidden comment: T502118201399)
CHIP 11.8K OHM 100PPM +-1% 0402 WALS L; MFG Part: WR04X1182FTL; TOL: 1%; MFG: WALSIN; Power: 1/16W; CREATE_NAME: Tom; DIP&SMD: SMD; SAP: T502118201399; Package: 0402; Vendor Code: *; Vendor Name: *; Type: Resistor; CREATE_TIME: 27-Aug-2019; Customer Specific: N/A
footprint 0402-RW
pins: 1, 2

## RES0402 1/16W 1% 11K OHM
designator R?, comment value 11K  (hidden comment: QCF161240-1102)
CHIP RES 11K OHM 1% 1/16W 0402; SAP: T502110201399; CREATE_NAME: Nathan; DIP&SMD: SMD; Vendor Code: *; Power: 1/16W; Vendor Name: *; MFG Part: *; MFG: *; TOL: 1%; Type: Resistor; CREATE_TIME: 05-Feb-2015; PACKAGE: 0402; Customer Specific: N/A
footprint 0402-RW
pins: 1, 2

## RES0402 1/16W 1% 12.1K OMH_WALSIN
designator R?, comment value 12K1  (hidden comment: T502121201399)
CHIP 12.1K OHM 100PPM +-1% 0402 WALS L; TOL: 1%; MFG: WALSIN (華新); Power: 1/16W; CREATE_NAME: Nathan; DIP&SMD: SMD; SAP: T502121201399; Package: 0402; MFG Part: *; Vendor Code: *; Vendor Name: *; Type: Resistor; CREATE_TIME: 25-May-2016; Customer Specific: N/A
footprint 0402-RW
pins: 1, 2

## RES0402 1/16W 1% 12.7K OMH_WALSIN
designator R?, comment value 12K7  (hidden comment: T502127201399)
CHIP 12.7K OHM 100PPM +-1% 0402 WALS L; TOL: 1%; MFG: WALSIN (華新); Power: 1/16W; CREATE_NAME: Nathan; DIP&SMD: SMD; SAP: T502127201399; Package: 0402; MFG Part: *; Vendor Code: *; Vendor Name: *; Type: Resistor; CREATE_TIME: 25-May-2016; Customer Specific: N/A
footprint 0402-RW
pins: 1, 2

## RES0402 1/16W 1% 12K OHM
designator R?, comment value 12K  (hidden comment: QCF161240-1202)
CHIP RES. 12K OHM 1/16W 1% 0402; SAP: T502120201399; CREATE_NAME: GordonL@Deftronics; DIP&SMD: SMD; Vendor Code: *; Power: 1/16W; Vendor Name: *; MFG Part: *; MFG: *; TOL: 1%; Type: Resistor; CREATE_TIME: 05-Jan-2013; PACKAGE: 0402; Customer Specific: N/A
footprint 0402-RW
pins: 1, 2

## RES0402 1/16W 1% 12K OHM 50PPM
designator R?, comment value 12K  (hidden comment: QCF161241-1202)
CHIP RES 12K OHM 1/16W 1% 0402 50ppm; SAP: T501120201329; MFG: WALSIN; DIP&SMD: SMD; Vendor Code: *; Power: 1/16W; Vendor Name: *; MFG Part: *; TOL: 1%; Type: Resistor; PACKAGE: 0402; Customer Specific: N/A
footprint 0402-RW
pins: 1, 2

## RES0402 1/16W 1% 12K OMH_50PPM_YAGEO
designator R?, comment value 12K  (hidden comment: T501120201321)
CHIP 12K OHM   50PPM +-1% 0402 YAGE H; TOL: 1%; MFG: YAGEO (國巨); Power: 1/16W; CREATE_NAME: Nathan; DIP&SMD: SMD; SAP: T501120201321; Package: 0402; MFG Part: *; Vendor Code: *; Vendor Name: *; Type: Resistor; CREATE_TIME: 23-May-2016; Customer Specific: N/A
footprint 0402-RW
pins: 1, 2

## RES0402 1/16W 1% 13.3K OMH_WALSIN
designator R?, comment value 13K3  (hidden comment: T502133201399)
CHIP 13.3K OHM 100PPM +-1% 0402 WALS L; MFG Part: WR04X1332FTL; TOL: 1%; MFG: WALSIN; Power: 1/16W; CREATE_NAME: Nathan; DIP&SMD: SMD; SAP: T502133201399; Package: 0402; Vendor Code: *; Vendor Name: *; Type: Resistor; CREATE_TIME: 16-Oct-2017; Customer Specific: N/A
footprint 0402-RW
pins: 1, 2

## RES0402 1/16W 1% 13.3K OMH_YAGEO
designator R?  value 13K3  (hidden comment: *)
CHIP 13.3K OHM 100PPM +-1% 0402 YAGEO; MFG Part: RC0402FR-0713K3L; TOL: 1%; MFG: YAGEO (國巨); Power: 1/16W; CREATE_NAME: Nathan; DIP&SMD: SMD; SAP: *; Package: 0402; Vendor Code: *; Vendor Name: *; Type: Resistor; CREATE_TIME: 06-Jul-2020; Customer Specific: N/A
footprint 0402-RW
pins: 1, 2

## RES0402 1/16W 1% 13.7K OMH_WALSIN
designator R?, comment value 13K7  (hidden comment: T502137201399)
CHIP 13.7K OHM 100PPM +-1% 0402 WALS L; MFG Part: WR04X1372FTL; TOL: 1%; MFG: WALSIN; Power: 1/16W; CREATE_NAME: Nathan; DIP&SMD: SMD; SAP: T502137201399; Package: 0402; Vendor Code: *; Vendor Name: *; Type: Resistor; CREATE_TIME: 08-Jan-2018; Customer Specific: N/A
footprint 0402-RW
pins: 1, 2

## RES0402 1/16W 1% 13K OHM
designator R?, comment value 13K  (hidden comment: QCF161240-1302)
CHIP RES 13K OHM 1% 1/16W 0402 100PPM; SAP: T502130201399; CREATE_NAME: Nathan; DIP&SMD: SMD; Package: 0402; TOL: 1%; MFG Part: *; MFG: *; Vendor Code: *; Vendor Name: *; Type: Resistor; Power: 1/16W; CREATE_TIME: 04-Feb-2015; Customer Specific: N/A
footprint 0402-RW
pins: 1, 2

## RES0402 1/16W 1% 14.3K OMH_WALSIN
designator R?, comment value 14K3  (hidden comment: T502143201399)
CHIP 14.3K OHM 100PPM +-1% 0402 WALS L; TOL: 1%; MFG: WALSIN (華新); Power: 1/16W; CREATE_NAME: Nathan; DIP&SMD: SMD; SAP: T502143201399; Package: 0402; MFG Part: *; Vendor Code: *; Vendor Name: *; Type: Resistor; CREATE_TIME: 25-May-2016; Customer Specific: N/A
footprint 0402-RW
pins: 1, 2

## RES0402 1/16W 1% 15.4K OMH_WALSIN
designator R?, comment value 15K4  (hidden comment: T502154201399)
CHIP 15.4K OHM 100PPM +-1% 0402 WALS L; MFG Part: WR04X1542FTL; TOL: 1%; MFG: WALSIN; Power: 1/16W; CREATE_NAME: Nathan; DIP&SMD: SMD; SAP: T502154201399; Package: 0402; Vendor Code: *; Vendor Name: *; Type: Resistor; CREATE_TIME: 17-Feb-2020; Customer Specific: N/A
footprint 0402-RW
pins: 1, 2

## RES0402 1/16W 1% 15K OHM
designator R?, comment value 15K  (hidden comment: QCF161240-1502)
CHIP RES 15K OHM 1/16W 1% 0402; SAP: T502150201399; CREATE_NAME: GordonL@Deftronics; DIP&SMD: SMD; Vendor Code: *; Power: 1/16W; Vendor Name: *; MFG Part: *; MFG: *; TOL: 1%; Type: Resistor; CREATE_TIME: 05-Jan-2013; PACKAGE: 0402; Customer Specific: N/A
footprint 0402-RW
pins: 1, 2

## RES0402 1/16W 1% 15K OMH_WALSIN
designator R?, comment value 15K  (hidden comment: T502150201199)
CHIP 15K OHM   100PPM +-0.1% 0402 WALS L; TOL: 1%; MFG: WALSIN (華新); Power: 1/16W; CREATE_NAME: Nathan; DIP&SMD: SMD; SAP: T502150201199; Package: 0402; MFG Part: *; Vendor Code: *; Vendor Name: *; Type: Resistor; CREATE_TIME: 25-May-2016; Customer Specific: N/A
footprint 0402-RW
pins: 1, 2

## RES0402 1/16W 1% 16K OMH_WALSIN
designator R?, comment value 16K  (hidden comment: T502160201399)
CHIP 16K OHM   100PPM +-1% 0402 WALS G; TOL: 1%; MFG: WALSIN (華新); Power: 1/16W; CREATE_NAME: Nathan; DIP&SMD: SMD; SAP: T502160201399; Package: 0402; MFG Part: *; Vendor Code: *; Vendor Name: *; Type: Resistor; CREATE_TIME: 25-May-2016; Customer Specific: N/A
footprint 0402-RW
pins: 1, 2

## RES0402 1/16W 1% 17.4K OMH_WALSIN
designator R?, comment value 17K4  (hidden comment: T502174201399)
CHIP 17.4K OHM 100PPM +-1% 0402 WALS L; TOL: 1%; MFG: WALSIN (華新); Power: 1/16W; CREATE_NAME: Nathan; DIP&SMD: SMD; SAP: T502174201399; Package: 0402; MFG Part: *; Vendor Code: *; Vendor Name: *; Type: Resistor; CREATE_TIME: 22-Jun-2020; Customer Specific: N/A
footprint 0402-RW
pins: 1, 2

## RES0402 1/16W 1% 17.8K OMH_WALSIN
designator R?, comment value 17K8  (hidden comment: T502178201399)
CHIP 17.8K OHM 100PPM +-1% 0402 WALS L; TOL: 1%; MFG: WALSIN (華新); Power: 1/16W; CREATE_NAME: Nathan; DIP&SMD: SMD; SAP: T502178201399; Package: 0402; MFG Part: *; Vendor Code: *; Vendor Name: *; Type: Resistor; CREATE_TIME: 25-May-2016; Customer Specific: N/A
footprint 0402-RW
pins: 1, 2

## RES0402 1/16W 1% 18.2 OHM_WALSIN
designator R?, comment value 18R2  (hidden comment: T502182A01399)
CHIP 18.2 OHM 100PPM +-1% 0402 WALS L; MFG Part: WR04X18R2FTL; Power: 1/16W; MFG: WALSIN (華新); TOL: 1%; CREATE_NAME: Nathan Han; DIP&SMD: SMD; Vendor Code: *; SAP: T502182A01399; Vendor Name: *; Type: Resistor; PACKAGE: 0402; CREATE_TIME: 03-Jan-2018; Customer Specific: N/A
footprint 0402-RW
pins: 1, 2

## RES0402 1/16W 1% 18.2K OHM
designator R?, comment value 18.2K  (hidden comment: QCF161240-1822)
CHIP RES 18.2K OHM 1% 1/16W 0402 WALSIN; SAP: T502182201399; DIP&SMD: SMD; Vendor Code: *; Power: 1/16W; Vendor Name: *; MFG Part: *; MFG: WALSIN; TOL: 1%; Type: Resistor; PACKAGE: 0402; Customer Specific: N/A
footprint 0402-RW
pins: 1, 2

## RES0402 1/16W 1% 18.7K OHM_WALSIN
designator R?, comment value 18.7K  (hidden comment: T502187201399)
CHIP 18.7K OHM 100PPM +-1% 0402 WALS L; MFG Part: WR04X1872FTL; TOL: 1%; MFG: WALSIN; Power: 1/16W; CREATE_NAME: Tom; DIP&SMD: SMD; SAP: T502187201399; Package: 0402; Vendor Code: *; Vendor Name: *; Type: Resistor; CREATE_TIME: 27-Aug-2019; Customer Specific: N/A
footprint 0402-RW
pins: 1, 2

## RES0402 1/16W 1% 18K OMH_WALSIN
designator R?, comment value 18K  (hidden comment: T502180201399)
CHIP 18K OHM   100PPM +-1% 0402 WALS L; TOL: 1%; MFG: WALSIN (華新); Power: 1/16W; CREATE_NAME: Nathan; DIP&SMD: SMD; SAP: T502180201399; Package: 0402; MFG Part: *; Vendor Code: *; Vendor Name: *; Type: Resistor; CREATE_TIME: 25-May-2016; Customer Specific: N/A
footprint 0402-RW
pins: 1, 2

## RES0402 1/16W 1% 20.5K OMH_WALSIN
designator R?, comment value 20K5  (hidden comment: T502205201399)
CHIP 20.5K OHM 100PPM +-1% 0402 WALS L; TOL: 1%; MFG: WALSIN; Power: 1/16W; CREATE_NAME: Nathan; DIP&SMD: SMD; SAP: T502205201399; Package: 0402; MFG Part: *; Vendor Code: *; Vendor Name: *; Type: Resistor; CREATE_TIME: 25-Mar-2019; Customer Specific: N/A
footprint 0402-RW
pins: 1, 2

## RES0402 1/16W 1% 20.5K OMH_YAGEO
designator R?, comment value 20K5  (hidden comment: T502205201391)
CHIP 20.5K OHM 100PPM +-1% 0402 YAGE L; TOL: 1%; MFG: YAGEO (國巨); Power: 1/16W; CREATE_NAME: Nathan; DIP&SMD: SMD; SAP: T502205201391; Package: 0402; MFG Part: *; Vendor Code: *; Vendor Name: *; Type: Resistor; CREATE_TIME: 23-May-2016; Customer Specific: N/A
footprint 0402-RW
pins: 1, 2

## RES0402 1/16W 1% 20K OHM
designator R?, comment value 20K  (hidden comment: QCF161240-2002)
CHIP RES 20K OHM 1% 1/16W 0402; SAP: T502200201399; CREATE_NAME: GordonL@Deftronics; DIP&SMD: SMD; Vendor Code: *; Power: 1/16W; Vendor Name: *; MFG Part: *; MFG: *; TOL: 1%; Type: Resistor; CREATE_TIME: 11-Mar-2014; PACKAGE: 0402; Customer Specific: N/A
footprint 0402-RW
pins: 1, 2

## RES0402 1/16W 1% 21K OMH_WALSIN
designator R?, comment value 21K  (hidden comment: T502210201399)
CHIP 21K OHM 100PPM +-1% 0402 WALS L; TOL: 1%; MFG: WALSIN (華新); Power: 1/16W; CREATE_NAME: Nathan; DIP&SMD: SMD; SAP: T502210201399; Package: 0402; MFG Part: *; Vendor Code: *; Vendor Name: *; Type: Resistor; CREATE_TIME: 11-Aug-2017; Customer Specific: N/A
footprint 0402-RW
pins: 1, 2

## RES0402 1/16W 1% 22 OHM
designator R?, comment value 22R  (hidden comment: QCF161242-2209)
CHIP RES 22 OHM 1/16W 1% 0402; SAP: T502220A01399; MFG: WALSIN; DIP&SMD: SMD; Vendor Code: *; Power: 1/16W; Vendor Name: *; MFG Part: *; TOL: 1%; Type: Resistor; PACKAGE: 0402; Customer Specific: N/A
footprint 0402-RW
pins: 1, 2

## RES0402 1/16W 1% 22 OMH_YAGEO
designator R?, comment value 22R  (hidden comment: T502220A01391)
CHIP 22 OHM    100PPM +-1% 0402 YAGE L; TOL: 1%; MFG: YAGEO (國巨); Power: 1/16W; CREATE_NAME: Nathan; DIP&SMD: SMD; SAP: T502220A01391; Package: 0402; MFG Part: *; Vendor Code: *; Vendor Name: *; Type: Resistor; CREATE_TIME: 23-May-2016; Customer Specific: N/A
footprint 0402-RW
pins: 1, 2

## RES0402 1/16W 1% 22.1K OHM
designator R?, comment value 22.1K  (hidden comment: QCF161240-2212)
CHIP RES 22.1K OHM 1% 1/16W 0402 ??; SAP: T502221201399; CREATE_NAME: GordonL@Deftronics; DIP&SMD: SMD; Vendor Code: *; Power: 1/16W; Vendor Name: *; MFG Part: *; MFG: *; TOL: 1%; Type: Resistor; CREATE_TIME: 11-Mar-2014; PACKAGE: 0402; Customer Specific: N/A
footprint 0402-RW
pins: 1, 2

## RES0402 1/16W 1% 22K OHM
designator R?, comment value 22K  (hidden comment: QCF161240-2202)
CHIP RES 22K OHM 1/16W 1% 0402; SAP: T502220201399; MFG: WALSIN; DIP&SMD: SMD; Vendor Code: *; Power: 1/16W; Vendor Name: *; MFG Part: *; TOL: 1%; Type: Resistor; PACKAGE: 0402; Customer Specific: N/A
footprint 0402-RW
pins: 1, 2

## RES0402 1/16W 1% 22K OMH_50PPM_YAGEO
designator R?, comment value 22K  (hidden comment: T501220201321)
CHIP 22K OHM   50PPM +-1% 0402 YAGE H; TOL: 1%; MFG: YAGEO (國巨); Power: 1/16W; CREATE_NAME: Nathan; DIP&SMD: SMD; SAP: T501220201321; Package: 0402; MFG Part: *; Vendor Code: *; Vendor Name: *; Type: Resistor; CREATE_TIME: 23-May-2016; Customer Specific: N/A
footprint 0402-RW
pins: 1, 2

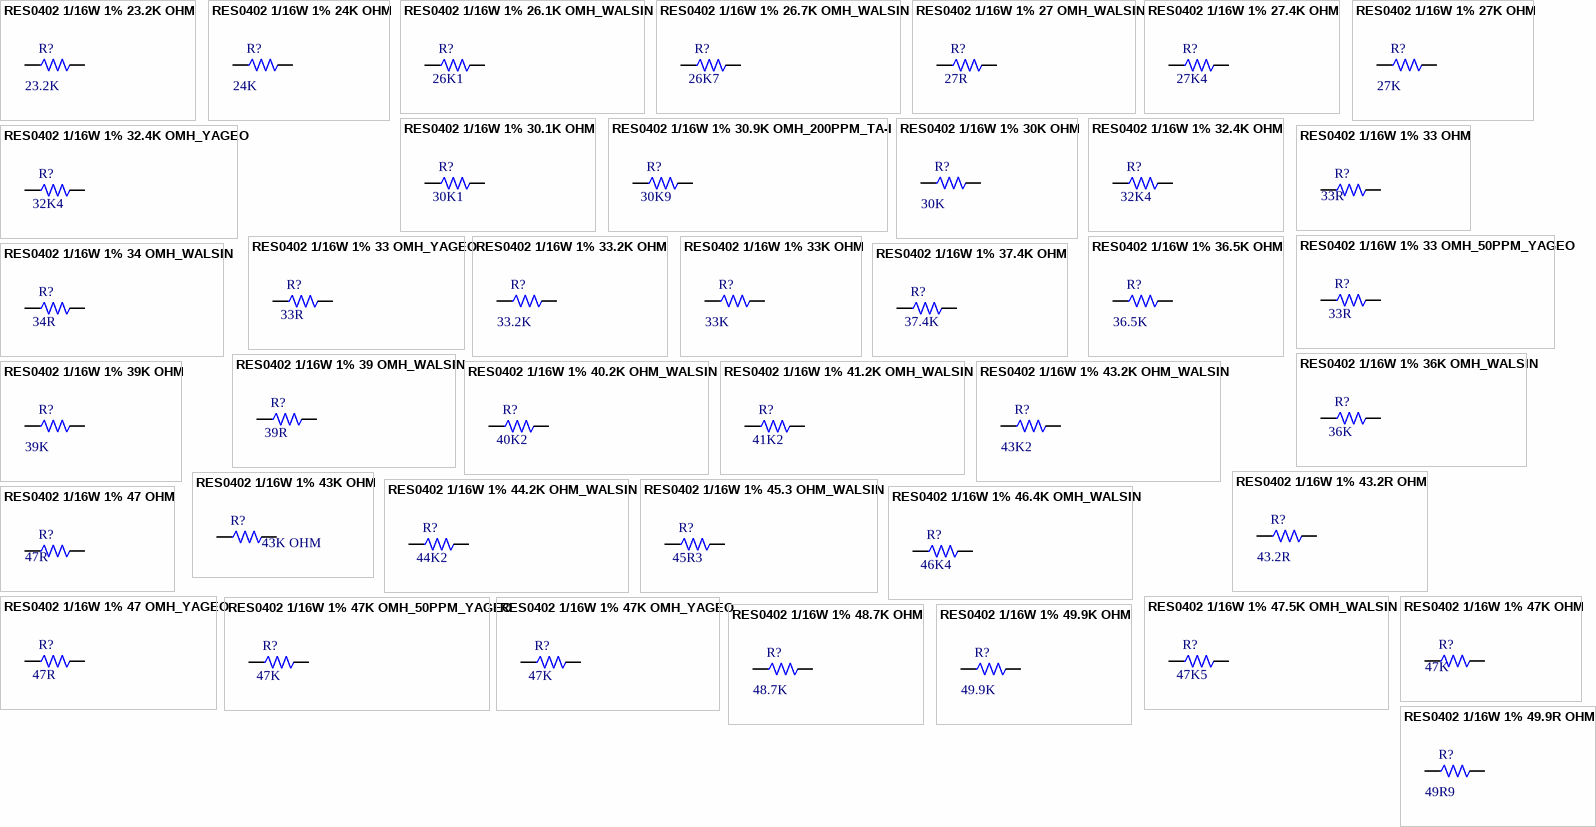
[diagram p6: symbols RES0402 1/16W 1% 23.2K OHM to RES0402 1/16W 1% 49.9R OHM]

## RES0402 1/16W 1% 23.2K OHM
designator R?, comment value 23.2K  (hidden comment: QCF161240-2322)
CHIP RES  23.2K OHM 1/16W 1% 0402; SAP: T502232201399; CREATE_NAME: GordonL@Deftronics; DIP&SMD: SMD; Vendor Code: *; Power: 1/16W; Vendor Name: *; MFG Part: *; MFG: *; TOL: 1%; Type: Resistor; CREATE_TIME: 05-Jan-2013; PACKAGE: 0402; Customer Specific: N/A
footprint 0402-RW
pins: 1, 2

## RES0402 1/16W 1% 24K OHM
designator R?, comment value 24K  (hidden comment: QCF161240-2402)
CHIP RES 24K OHM 1% 1/16W 0402; SAP: T502240201399; CREATE_NAME: GordonL@Deftronics; DIP&SMD: SMD; Vendor Code: *; Power: 1/16W; Vendor Name: *; MFG Part: *; MFG: *; TOL: 1%; Type: Resistor; CREATE_TIME: 11-Mar-2014; PACKAGE: 0402; Customer Specific: N/A
footprint 0402-RW
pins: 1, 2

## RES0402 1/16W 1% 26.1K OMH_WALSIN
designator R?, comment value 26K1  (hidden comment: T502261201399)
CHIP 26.1K OHM 100PPM +-1% 0402 WALS L; MFG Part: WR04X2612FTL; TOL: 1%; MFG: WALSIN (華新); Power: 1/16W; CREATE_NAME: Nathan; DIP&SMD: SMD; SAP: T502261201399; Package: 0402; Vendor Code: *; Vendor Name: *; Type: Resistor; CREATE_TIME: 11-Jan-2018; Customer Specific: N/A
footprint 0402-RW
pins: 1, 2

## RES0402 1/16W 1% 26.7K OMH_WALSIN
designator R?, comment value 26K7  (hidden comment: T502267201399)
CHIP 26.7K OHM 100PPM +-1% 0402 WALS; TOL: 1%; MFG: WALSIN (華新); Power: 1/16W; CREATE_NAME: Nathan; DIP&SMD: SMD; SAP: T502267201399; Package: 0402; MFG Part: *; Vendor Code: *; Vendor Name: *; Type: Resistor; CREATE_TIME: 25-May-2016; Customer Specific: N/A
footprint 0402-RW
pins: 1, 2

## RES0402 1/16W 1% 27 OMH_WALSIN
designator R?, comment value 27R  (hidden comment: T502270A01399)
CHIP 27 OHM 100PPM +-1% 0402 WALS L; TOL: 1%; MFG: WALSIN (華新); Power: 1/16W; CREATE_NAME: Nathan; DIP&SMD: SMD; SAP: T502270A01399; Package: 0402; MFG Part: *; Vendor Code: *; Vendor Name: *; Type: Resistor; CREATE_TIME: 25-May-2016; Customer Specific: N/A
footprint 0402-RW
pins: 1, 2

## RES0402 1/16W 1% 27.4K OHM
designator R?, comment value 27K4  (hidden comment: QCF161240-2742)
CHIP RES  27.4K OHM 1/16W 1% 0402; SAP: T502274201399; CREATE_NAME: GordonL@Deftronics; DIP&SMD: SMD; Vendor Code: *; Power: 1/16W; Vendor Name: *; MFG Part: *; MFG: *; TOL: 1%; Type: Resistor; CREATE_TIME: 05-Jan-2013; PACKAGE: 0402; Customer Specific: N/A
footprint 0402-RW
pins: 1, 2

## RES0402 1/16W 1% 27K OHM
designator R?, comment value 27K  (hidden comment: QCF161242-2702)
CHIP RES 27K OHM 1/16W 1% 0402; SAP: T502270201399; CREATE_NAME: GordonL@Deftronics; DIP&SMD: SMD; Vendor Code: *; Power: 1/16W; Vendor Name: *; MFG Part: *; MFG: *; TOL: 1%; Type: Resistor; CREATE_TIME: 11-Mar-2014; PACKAGE: 0402; Customer Specific: N/A
footprint 0402-RW
pins: 1, 2

## RES0402 1/16W 1% 30.1K OHM
designator R?, comment value 30K1  (hidden comment: QCF161240-3012)
CHIP RES 30.1K OHM 1% 1/16W 0402 ??; SAP: T502301201399; CREATE_NAME: GordonL@Deftronics; DIP&SMD: SMD; Vendor Code: *; Power: 1/16W; Vendor Name: *; MFG Part: *; MFG: *; TOL: 1%; Type: Resistor; CREATE_TIME: 11-Mar-2014; PACKAGE: 0402; Customer Specific: N/A
footprint 0402-RW
pins: 1, 2

## RES0402 1/16W 1% 30.9K OMH_200PPM_TA-I
designator R?, comment value 30K9  (hidden comment: T5023092013A4)
CHIP 30.9K OHM 200PPM +-1% 0402 TA-I L; TOL: 1%; MFG: TA-I (大毅); Power: 1/16W; CREATE_NAME: Nathan; DIP&SMD: SMD; SAP: T5023092013A4; Package: 0402; MFG Part: *; Vendor Code: *; Vendor Name: *; Type: Resistor; CREATE_TIME: 03-July-2016; Customer Specific: N/A
footprint 0402-RW
pins: 1, 2

## RES0402 1/16W 1% 30K OHM
designator R?, comment value 30K  (hidden comment: QCF161240-3002)
CHIP RES  30K OHM 1/16W 1% 0402; SAP: T502300201399; MFG: WALSIN; CREATE_NAME: GordonL@Deftronics; DIP&SMD: SMD; Vendor Code: *; Power: 1/16W; Vendor Name: *; MFG Part: *; TOL: 1%; Type: Resistor; CREATE_TIME: 24-Feb-2014; PACKAGE: 0402; Customer Specific: N/A
footprint 0402-RW
pins: 1, 2

## RES0402 1/16W 1% 32.4K OHM
designator R?, comment value 32K4  (hidden comment: QCF161240-3242)
CHIP RES 32.4K OHM 1% 1/16W 0402; SAP: T502324201399; CREATE_NAME: GordonL@Deftronics; DIP&SMD: SMD; Vendor Code: *; Power: 1/16W; Vendor Name: *; MFG Part: *; MFG: *; TOL: 1%; Type: Resistor; CREATE_TIME: 11-Mar-2014; PACKAGE: 0402; Customer Specific: N/A
footprint 0402-RW
pins: 1, 2

## RES0402 1/16W 1% 32.4K OMH_YAGEO
designator R?, comment value 32K4  (hidden comment: T502324201391)
CHIP 32.4K OHM 100PPM +-1% 0402 YAGE L; TOL: 1%; MFG: YAGEO (國巨); Power: 1/16W; CREATE_NAME: Nathan; DIP&SMD: SMD; Customer Specific: Q Project; SAP: T502324201391; Package: 0402; MFG Part: *; Vendor Code: *; Vendor Name: *; Type: Resistor; CREATE_TIME: 23-May-2016
footprint 0402-RW
pins: 1, 2

## RES0402 1/16W 1% 33 OHM
designator R?, comment value 33R  (hidden comment: QCF161241-3309)
CHIP RES 33 OHM 1/16W 1% 0402; SAP: T502330A01399; MFG: WALSIN; DIP&SMD: SMD; Vendor Code: *; Power: 1/16W; Vendor Name: *; MFG Part: *; TOL: 1%; Type: Resistor; PACKAGE: 0402; Customer Specific: N/A
footprint 0402-RW
pins: 1, 2

## RES0402 1/16W 1% 33 OMH_50PPM_YAGEO
designator R?, comment value 33R  (hidden comment: T501330A01321)
CHIP 33 OHM    50PPM +-1% 0402 YAGE H; TOL: 1%; MFG: YAGEO (國巨); Power: 1/16W; CREATE_NAME: Nathan; DIP&SMD: SMD; SAP: T501330A01321; Package: 0402; MFG Part: *; Vendor Code: *; Vendor Name: *; Type: Resistor; CREATE_TIME: 23-May-2016; Customer Specific: N/A
footprint 0402-RW
pins: 1, 2

## RES0402 1/16W 1% 33 OMH_YAGEO
designator R?  value 33R  (hidden comment: *)
CHIP 33 OHM 200PPM +-1% 0402 YAGE L; TOL: 1%; MFG: YAGEO (國巨); CREATE_NAME: Nathan; DIP&SMD: SMD; SAP: *; Package: 0402; MFG Part: *; Vendor Code: *; Vendor Name: *; Type: Resistor; Power: *; CREATE_TIME: 09-Jul-2020; Customer Specific: N/A
footprint 0402-RW
pins: 1, 2

## RES0402 1/16W 1% 33.2K OHM
designator R?, comment value 33.2K  (hidden comment: QCF161240-3322)
CHIP RES 33.2K OHM 1% 1/16W 0402; SAP: T502332201399; CREATE_NAME: GordonL@Deftronics; DIP&SMD: SMD; Vendor Code: *; Power: 1/16W; Vendor Name: *; MFG Part: *; MFG: *; TOL: 1%; Type: Resistor; CREATE_TIME: 18-Feb-2014; PACKAGE: 0402; Customer Specific: N/A
footprint 0402-RW
pins: 1, 2

## RES0402 1/16W 1% 33K OHM
designator R?, comment value 33K  (hidden comment: QCF161240-3302)
CHIP RES 33K OHM 1% 1/16W 0402; SAP: T502330201399; CREATE_NAME: GordonL@Deftronics; DIP&SMD: SMD; Vendor Code: *; Power: 1/16W; Vendor Name: *; MFG Part: *; MFG: *; TOL: 1%; Type: Resistor; CREATE_TIME: 20-Feb-2014; PACKAGE: 0402; Customer Specific: N/A
footprint 0402-RW
pins: 1, 2